# Altium schematic symbol library C0402.Schlib: 1 symbol
Pins are listed as number, name and electrical type; pins without a type are passive.

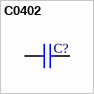
[diagram p0: symbol C0402]

## C0402
designator C?  (value not drawn)
0402 Ceramic Chip Capacitor - Standard
pins: 1, 2